# Altium footprint library con-amp-quick.PCBLIB: 30 footprints (part 2 of 2)
Each footprint in its own frame and in the unit in brackets; x right, y up, seen from the top. Pads: shape width x height; smd on the part's side, far side on the other; paste and mask are expansions set on the pad; w line width, h text height; cw(c..) or ccw(c..) is an arc to the next point about the centre after c.
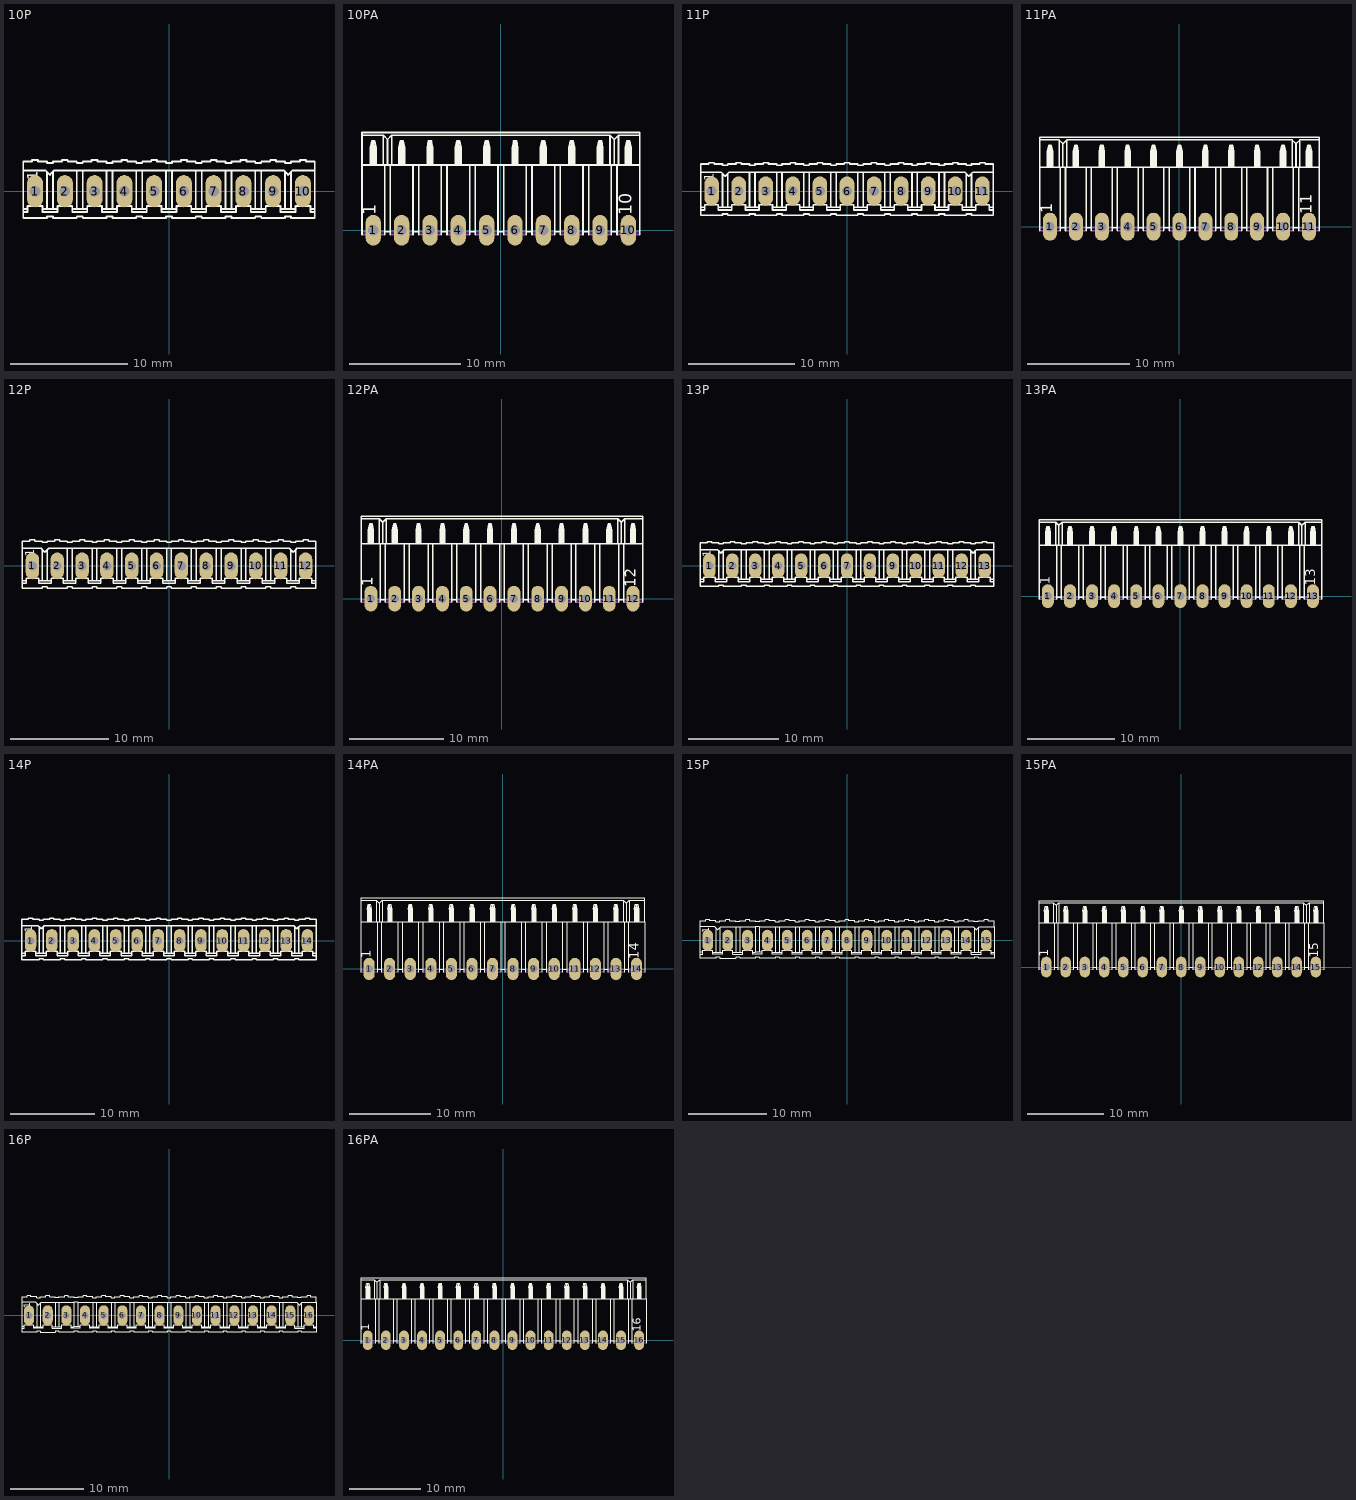
[diagram p1: the footprints below, top view; thin cyan lines are the x and y axes]

## 10P [mil]
pads (10):
  oval 54x108 hole 36: 1(-450,0) 2(-350,0) 3(-250,0) 4(-150,0) 5(-50,0) 6(50,0) 7(150,0) 8(250,0) 9(350,0) 10(450,0)
Top Overlay:
  drawing of 255 lines, arcs and shapes, not listed
  text "1" at -430,37 h60.45
Mechanical 16:
  rectangle: -463,-13 -437,13
  rectangle: -363,-13 -337,13
  rectangle: -263,-13 -237,13
  rectangle: -163,-13 -137,13
  rectangle: -63,-13 -37,13
  rectangle: 137,-13 163,13
  rectangle: 37,-13 63,13
  rectangle: 437,-13 463,13
  rectangle: 237,-13 263,13
  rectangle: 337,-13 363,13

## 10PA [mil]
pads (10):
  oval 54x108 hole 36: 1(-450,0) 2(-350,0) 3(-250,0) 4(-150,0) 5(-50,0) 6(50,0) 7(150,0) 8(250,0) 9(350,0) 10(450,0)
Top Overlay:
  drawing of 201 lines, arcs and shapes, not listed
  text "1" at -425,52 h77.5
  text "10" at 477,53 h77.5
Mechanical 16:
  lines w6: -490,-15 -470,-15 -470,-5 ; -490,-5 -470,-5 ; -410,-15 -430,-15 -430,-5 ; -410,-5 -430,-5 ; -390,-15 -370,-15 -370,-5 ; -390,-5 -370,-5 ; -310,-15 -330,-15 -330,-5 ; -310,-5 -330,-5 ; -290,-15 -270,-15 -270,-5 ; -290,-5 -270,-5 ; -210,-15 -230,-15 -230,-5 ; -210,-5 -230,-5 ; -190,-15 -170,-15 -170,-5 ; -190,-5 -170,-5 ; -110,-15 -130,-15 -130,-5 ; -110,-5 -130,-5 ; -90,-15 -70,-15 -70,-5 ; -90,-5 -70,-5 ; -10,-15 -30,-15 -30,-5 ; -10,-5 -30,-5 ; 10,-15 30,-15 30,-5 ; 10,-5 30,-5 ; 90,-15 70,-15 70,-5 ; 90,-5 70,-5 ; 110,-15 130,-15 130,-5 ; 110,-5 130,-5 ; 190,-15 170,-15 170,-5 ; 190,-5 170,-5 ; 210,-15 230,-15 230,-5 ; 210,-5 230,-5 ; 290,-15 270,-15 270,-5 ; 290,-5 270,-5 ; 310,-15 330,-15 330,-5 ; 310,-5 330,-5 ; 390,-15 370,-15 370,-5 ; 390,-5 370,-5 ; 410,-15 430,-15 430,-5 ; 410,-5 430,-5 ; 490,-15 470,-15 470,-5 ; 490,-5 470,-5 ; -470,-5 -460,-5 -460,-15 -440,-15 -440,-5 -430,-5 ; -370,-5 -360,-5 -360,-15 -340,-15 -340,-5 -330,-5 ; -270,-5 -260,-5 -260,-15 -240,-15 -240,-5 -230,-5 ; -170,-5 -160,-5 -160,-15 -140,-15 -140,-5 -130,-5 ; -70,-5 -60,-5 -60,-15 -40,-15 -40,-5 -30,-5 ; 30,-5 40,-5 40,-15 60,-15 60,-5 70,-5 ; 130,-5 140,-5 140,-15 160,-15 160,-5 170,-5 ; 230,-5 240,-5 240,-15 260,-15 260,-5 270,-5 ; 330,-5 340,-5 340,-15 360,-15 360,-5 370,-5 ; 430,-5 440,-5 440,-15 460,-15 460,-5 470,-5

## 11P [mil]
pads (11):
  oval 54x108 hole 36: 1(-500,0) 2(-400,0) 3(-300,0) 4(-200,0) 5(-100,0) 6(0,0) 7(100,0) 8(200,0) 9(300,0) 10(400,0) 11(500,0)
Top Overlay:
  drawing of 280 lines, arcs and shapes, not listed
  text "1" at -480,37 h60.45
Mechanical 16:
  rectangle: -513,-13 -487,13
  rectangle: -413,-13 -387,13
  rectangle: -313,-13 -287,13
  rectangle: -213,-13 -187,13
  rectangle: -113,-13 -87,13
  rectangle: 87,-13 113,13
  rectangle: -13,-13 13,13
  rectangle: 487,-13 513,13
  rectangle: 187,-13 213,13
  rectangle: 287,-13 313,13
  rectangle: 387,-13 413,13

## 11PA [mil]
pads (11):
  oval 54x108 hole 36: 1(-500,0) 2(-400,0) 3(-300,0) 4(-200,0) 5(-100,0) 6(0,0) 7(100,0) 8(200,0) 9(300,0) 10(400,0) 11(500,0)
Top Overlay:
  drawing of 221 lines, arcs and shapes, not listed
  text "1" at -475,52 h77.5
  text "11" at 527,48 h77.5
Mechanical 16:
  lines w6: -540,-15 -520,-15 -520,-5 ; -540,-5 -520,-5 ; -460,-15 -480,-15 -480,-5 ; -460,-5 -480,-5 ; -440,-15 -420,-15 -420,-5 ; -440,-5 -420,-5 ; -360,-15 -380,-15 -380,-5 ; -360,-5 -380,-5 ; -340,-15 -320,-15 -320,-5 ; -340,-5 -320,-5 ; -260,-15 -280,-15 -280,-5 ; -260,-5 -280,-5 ; -240,-15 -220,-15 -220,-5 ; -240,-5 -220,-5 ; -160,-15 -180,-15 -180,-5 ; -160,-5 -180,-5 ; -140,-15 -120,-15 -120,-5 ; -140,-5 -120,-5 ; -60,-15 -80,-15 -80,-5 ; -60,-5 -80,-5 ; -40,-15 -20,-15 -20,-5 ; -40,-5 -20,-5 ; 40,-15 20,-15 20,-5 ; 40,-5 20,-5 ; 60,-15 80,-15 80,-5 ; 60,-5 80,-5 ; 140,-15 120,-15 120,-5 ; 140,-5 120,-5 ; 160,-15 180,-15 180,-5 ; 160,-5 180,-5 ; 240,-15 220,-15 220,-5 ; 240,-5 220,-5 ; 260,-15 280,-15 280,-5 ; 260,-5 280,-5 ; 340,-15 320,-15 320,-5 ; 340,-5 320,-5 ; 360,-15 380,-15 380,-5 ; 360,-5 380,-5 ; 440,-15 420,-15 420,-5 ; 440,-5 420,-5 ; 460,-15 480,-15 480,-5 ; 460,-5 480,-5 ; 540,-15 520,-15 520,-5 ; 540,-5 520,-5 ; -520,-5 -510,-5 -510,-15 -490,-15 -490,-5 -480,-5 ; -420,-5 -410,-5 -410,-15 -390,-15 -390,-5 -380,-5 ; -320,-5 -310,-5 -310,-15 -290,-15 -290,-5 -280,-5 ; -220,-5 -210,-5 -210,-15 -190,-15 -190,-5 -180,-5 ; -120,-5 -110,-5 -110,-15 -90,-15 -90,-5 -80,-5 ; -20,-5 -10,-5 -10,-15 10,-15 10,-5 20,-5 ; 80,-5 90,-5 90,-15 110,-15 110,-5 120,-5 ; 180,-5 190,-5 190,-15 210,-15 210,-5 220,-5 ; 280,-5 290,-5 290,-15 310,-15 310,-5 320,-5 ; 380,-5 390,-5 390,-15 410,-15 410,-5 420,-5 ; 480,-5 490,-5 490,-15 510,-15 510,-5 520,-5

## 12P [mil]
pads (12):
  oval 54x108 hole 36: 1(-550,0) 2(-450,0) 3(-350,0) 4(-250,0) 5(-150,0) 6(-50,0) 7(50,0) 8(150,0) 9(250,0) 10(350,0) 11(450,0) 12(550,0)
Top Overlay:
  drawing of 305 lines, arcs and shapes, not listed
  text "1" at -530,37 h60.45
Mechanical 16:
  rectangle: -563,-13 -537,13
  rectangle: -463,-13 -437,13
  rectangle: -363,-13 -337,13
  rectangle: -263,-13 -237,13
  rectangle: -163,-13 -137,13
  rectangle: 37,-13 63,13
  rectangle: -63,-13 -37,13
  rectangle: 537,-13 563,13
  rectangle: 137,-13 163,13
  rectangle: 237,-13 263,13
  rectangle: 337,-13 363,13
  rectangle: 437,-13 463,13

## 12PA [mil]
pads (12):
  oval 54x108 hole 36: 1(-550,0) 2(-450,0) 3(-350,0) 4(-250,0) 5(-150,0) 6(-50,0) 7(50,0) 8(150,0) 9(250,0) 10(350,0) 11(450,0) 12(550,0)
Top Overlay:
  drawing of 240 lines, arcs and shapes, not listed
  text "1" at -525,52 h77.5
  text "12" at 577,48 h77.5
Mechanical 16:
  lines w6: -590,-15 -570,-15 -570,-5 ; -590,-5 -570,-5 ; -510,-15 -530,-15 -530,-5 ; -510,-5 -530,-5 ; -490,-15 -470,-15 -470,-5 ; -490,-5 -470,-5 ; -410,-15 -430,-15 -430,-5 ; -410,-5 -430,-5 ; -390,-15 -370,-15 -370,-5 ; -390,-5 -370,-5 ; -310,-15 -330,-15 -330,-5 ; -310,-5 -330,-5 ; -290,-15 -270,-15 -270,-5 ; -290,-5 -270,-5 ; -210,-15 -230,-15 -230,-5 ; -210,-5 -230,-5 ; -190,-15 -170,-15 -170,-5 ; -190,-5 -170,-5 ; -110,-15 -130,-15 -130,-5 ; -110,-5 -130,-5 ; -90,-15 -70,-15 -70,-5 ; -90,-5 -70,-5 ; -10,-15 -30,-15 -30,-5 ; -10,-5 -30,-5 ; 10,-15 30,-15 30,-5 ; 10,-5 30,-5 ; 90,-15 70,-15 70,-5 ; 90,-5 70,-5 ; 110,-15 130,-15 130,-5 ; 110,-5 130,-5 ; 190,-15 170,-15 170,-5 ; 190,-5 170,-5 ; 210,-15 230,-15 230,-5 ; 210,-5 230,-5 ; 290,-15 270,-15 270,-5 ; 290,-5 270,-5 ; 310,-15 330,-15 330,-5 ; 310,-5 330,-5 ; 390,-15 370,-15 370,-5 ; 390,-5 370,-5 ; 410,-15 430,-15 430,-5 ; 410,-5 430,-5 ; 490,-15 470,-15 470,-5 ; 490,-5 470,-5 ; 510,-15 530,-15 530,-5 ; 510,-5 530,-5 ; 590,-15 570,-15 570,-5 ; 590,-5 570,-5 ; -570,-5 -560,-5 -560,-15 -540,-15 -540,-5 -530,-5 ; -470,-5 -460,-5 -460,-15 -440,-15 -440,-5 -430,-5 ; -370,-5 -360,-5 -360,-15 -340,-15 -340,-5 -330,-5 ; -270,-5 -260,-5 -260,-15 -240,-15 -240,-5 -230,-5 ; -170,-5 -160,-5 -160,-15 -140,-15 -140,-5 -130,-5 ; -70,-5 -60,-5 -60,-15 -40,-15 -40,-5 -30,-5 ; 30,-5 40,-5 40,-15 60,-15 60,-5 70,-5 ; 130,-5 140,-5 140,-15 160,-15 160,-5 170,-5 ; 230,-5 240,-5 240,-15 260,-15 260,-5 270,-5 ; 330,-5 340,-5 340,-15 360,-15 360,-5 370,-5 ; 430,-5 440,-5 440,-15 460,-15 460,-5 470,-5 ; 530,-5 540,-5 540,-15 560,-15 560,-5 570,-5

## 13P [mil]
pads (13):
  oval 54x108 hole 36: 1(-600,0) 2(-500,0) 3(-400,0) 4(-300,0) 5(-200,0) 6(-100,0) 7(0,0) 8(100,0) 9(200,0) 10(300,0) 11(400,0) 12(500,0) 13(600,0)
Top Overlay:
  drawing of 330 lines, arcs and shapes, not listed
  text "1" at -580,37 h60.45
Mechanical 16:
  rectangle: -613,-13 -587,13
  rectangle: -513,-13 -487,13
  rectangle: -413,-13 -387,13
  rectangle: -313,-13 -287,13
  rectangle: -213,-13 -187,13
  rectangle: -13,-13 13,13
  rectangle: -113,-13 -87,13
  rectangle: 587,-13 613,13
  rectangle: 87,-13 113,13
  rectangle: 187,-13 213,13
  rectangle: 287,-13 313,13
  rectangle: 387,-13 413,13
  rectangle: 487,-13 513,13

## 13PA [mil]
pads (13):
  oval 54x108 hole 36: 1(-600,0) 2(-500,0) 3(-400,0) 4(-300,0) 5(-200,0) 6(-100,0) 7(0,0) 8(100,0) 9(200,0) 10(300,0) 11(400,0) 12(500,0) 13(600,0)
Top Overlay:
  drawing of 259 lines, arcs and shapes, not listed
  text "1" at -575,52 h77.5
  text "13" at 627,48 h77.5
Mechanical 16:
  lines w6: -640,-15 -620,-15 -620,-5 ; -640,-5 -620,-5 ; -560,-15 -580,-15 -580,-5 ; -560,-5 -580,-5 ; -540,-15 -520,-15 -520,-5 ; -540,-5 -520,-5 ; -460,-15 -480,-15 -480,-5 ; -460,-5 -480,-5 ; -440,-15 -420,-15 -420,-5 ; -440,-5 -420,-5 ; -360,-15 -380,-15 -380,-5 ; -360,-5 -380,-5 ; -340,-15 -320,-15 -320,-5 ; -340,-5 -320,-5 ; -260,-15 -280,-15 -280,-5 ; -260,-5 -280,-5 ; -240,-15 -220,-15 -220,-5 ; -240,-5 -220,-5 ; -160,-15 -180,-15 -180,-5 ; -160,-5 -180,-5 ; -140,-15 -120,-15 -120,-5 ; -140,-5 -120,-5 ; -60,-15 -80,-15 -80,-5 ; -60,-5 -80,-5 ; -40,-15 -20,-15 -20,-5 ; -40,-5 -20,-5 ; 40,-15 20,-15 20,-5 ; 40,-5 20,-5 ; 60,-15 80,-15 80,-5 ; 60,-5 80,-5 ; 140,-15 120,-15 120,-5 ; 140,-5 120,-5 ; 160,-15 180,-15 180,-5 ; 160,-5 180,-5 ; 240,-15 220,-15 220,-5 ; 240,-5 220,-5 ; 260,-15 280,-15 280,-5 ; 260,-5 280,-5 ; 340,-15 320,-15 320,-5 ; 340,-5 320,-5 ; 360,-15 380,-15 380,-5 ; 360,-5 380,-5 ; 440,-15 420,-15 420,-5 ; 440,-5 420,-5 ; 460,-15 480,-15 480,-5 ; 460,-5 480,-5 ; 540,-15 520,-15 520,-5 ; 540,-5 520,-5 ; 560,-15 580,-15 580,-5 ; 560,-5 580,-5 ; 640,-15 620,-15 620,-5 ; 640,-5 620,-5 ; -620,-5 -610,-5 -610,-15 -590,-15 -590,-5 -580,-5 ; -520,-5 -510,-5 -510,-15 -490,-15 -490,-5 -480,-5 ; -420,-5 -410,-5 -410,-15 -390,-15 -390,-5 -380,-5 ; -320,-5 -310,-5 -310,-15 -290,-15 -290,-5 -280,-5 ; -220,-5 -210,-5 -210,-15 -190,-15 -190,-5 -180,-5 ; -120,-5 -110,-5 -110,-15 -90,-15 -90,-5 -80,-5 ; -20,-5 -10,-5 -10,-15 10,-15 10,-5 20,-5 ; 80,-5 90,-5 90,-15 110,-15 110,-5 120,-5 ; 180,-5 190,-5 190,-15 210,-15 210,-5 220,-5 ; 280,-5 290,-5 290,-15 310,-15 310,-5 320,-5 ; 380,-5 390,-5 390,-15 410,-15 410,-5 420,-5 ; 480,-5 490,-5 490,-15 510,-15 510,-5 520,-5 ; 580,-5 590,-5 590,-15 610,-15 610,-5 620,-5

## 14P [mil]
pads (14):
  oval 54x108 hole 36: 1(-650,0) 2(-550,0) 3(-450,0) 4(-350,0) 5(-250,0) 6(-150,0) 7(-50,0) 8(50,0) 9(150,0) 10(250,0) 11(350,0) 12(450,0) 13(550,0) 14(650,0)
Top Overlay:
  drawing of 355 lines, arcs and shapes, not listed
  text "1" at -630,37 h60.45
Mechanical 16:
  rectangle: -663,-13 -637,13
  rectangle: -563,-13 -537,13
  rectangle: -463,-13 -437,13
  rectangle: -363,-13 -337,13
  rectangle: -263,-13 -237,13
  rectangle: -63,-13 -37,13
  rectangle: -163,-13 -137,13
  rectangle: 637,-13 663,13
  rectangle: 37,-13 63,13
  rectangle: 137,-13 163,13
  rectangle: 237,-13 263,13
  rectangle: 337,-13 363,13
  rectangle: 437,-13 463,13
  rectangle: 537,-13 563,13

## 14PA [mil]
pads (14):
  oval 54x108 hole 36: 1(-650,0) 2(-550,0) 3(-450,0) 4(-350,0) 5(-250,0) 6(-150,0) 7(-50,0) 8(50,0) 9(150,0) 10(250,0) 11(350,0) 12(450,0) 13(550,0) 14(650,0)
Top Overlay:
  drawing of 278 lines, arcs and shapes, not listed
  text "1" at -625,52 h77.5
  text "14" at 677,48 h77.5
Mechanical 16:
  drawing of 154 lines, arcs and shapes, not listed

## 15P [mil]
pads (15):
  oval 54x108 hole 36: 1(-700,0) 2(-600,0) 3(-500,0) 4(-400,0) 5(-300,0) 6(-200,0) 7(-100,0) 8(0,0) 9(100,0) 10(200,0) 11(300,0) 12(400,0) 13(500,0) 14(600,0) 15(700,0)
Top Overlay:
  drawing of 380 lines, arcs and shapes, not listed
  text "1" at -680,37 h60.45
Mechanical 16:
  rectangle: -713,-13 -687,13
  rectangle: -613,-13 -587,13
  rectangle: -513,-13 -487,13
  rectangle: -413,-13 -387,13
  rectangle: -313,-13 -287,13
  rectangle: -113,-13 -87,13
  rectangle: -213,-13 -187,13
  rectangle: 687,-13 713,13
  rectangle: -13,-13 13,13
  rectangle: 87,-13 113,13
  rectangle: 187,-13 213,13
  rectangle: 287,-13 313,13
  rectangle: 387,-13 413,13
  rectangle: 487,-13 513,13
  rectangle: 587,-13 613,13

## 15PA [mil]
pads (15):
  oval 54x108 hole 36: 1(-700,0) 2(-600,0) 3(-500,0) 4(-400,0) 5(-300,0) 6(-200,0) 7(-100,0) 8(0,0) 9(100,0) 10(200,0) 11(300,0) 12(400,0) 13(500,0) 14(600,0) 15(700,0)
Top Overlay:
  drawing of 297 lines, arcs and shapes, not listed
  text "1" at -675,52 h77.5
  text "15" at 727,48 h77.5
Mechanical 16:
  drawing of 165 lines, arcs and shapes, not listed

## 16P [mil]
pads (16):
  oval 54x108 hole 36: 1(-750,0) 2(-650,0) 3(-550,0) 4(-450,0) 5(-350,0) 6(-250,0) 7(-150,0) 8(-50,0) 9(50,0) 10(150,0) 11(250,0) 12(350,0) 13(450,0) 14(550,0) 15(650,0) 16(750,0)
Top Overlay:
  drawing of 405 lines, arcs and shapes, not listed
  text "1" at -730,37 h60.45
Mechanical 16:
  rectangle: -763,-13 -737,13
  rectangle: -663,-13 -637,13
  rectangle: -563,-13 -537,13
  rectangle: -463,-13 -437,13
  rectangle: -363,-13 -337,13
  rectangle: -163,-13 -137,13
  rectangle: -263,-13 -237,13
  rectangle: 737,-13 763,13
  rectangle: -63,-13 -37,13
  rectangle: 37,-13 63,13
  rectangle: 137,-13 163,13
  rectangle: 237,-13 263,13
  rectangle: 337,-13 363,13
  rectangle: 437,-13 463,13
  rectangle: 537,-13 563,13
  rectangle: 637,-13 663,13

## 16PA [mil]
pads (16):
  oval 54x108 hole 36: 1(-750,0) 2(-650,0) 3(-550,0) 4(-450,0) 5(-350,0) 6(-250,0) 7(-150,0) 8(-50,0) 9(50,0) 10(150,0) 11(250,0) 12(350,0) 13(450,0) 14(550,0) 15(650,0) 16(750,0)
Top Overlay:
  drawing of 316 lines, arcs and shapes, not listed
  text "1" at -725,52 h77.5
  text "16" at 777,48 h77.5
Mechanical 16:
  drawing of 176 lines, arcs and shapes, not listed